# Altium schematic symbol library custom_components_ltk_mw.SchLib: 21 symbols
Pins are listed as number, name and electrical type; pins without a type are passive.

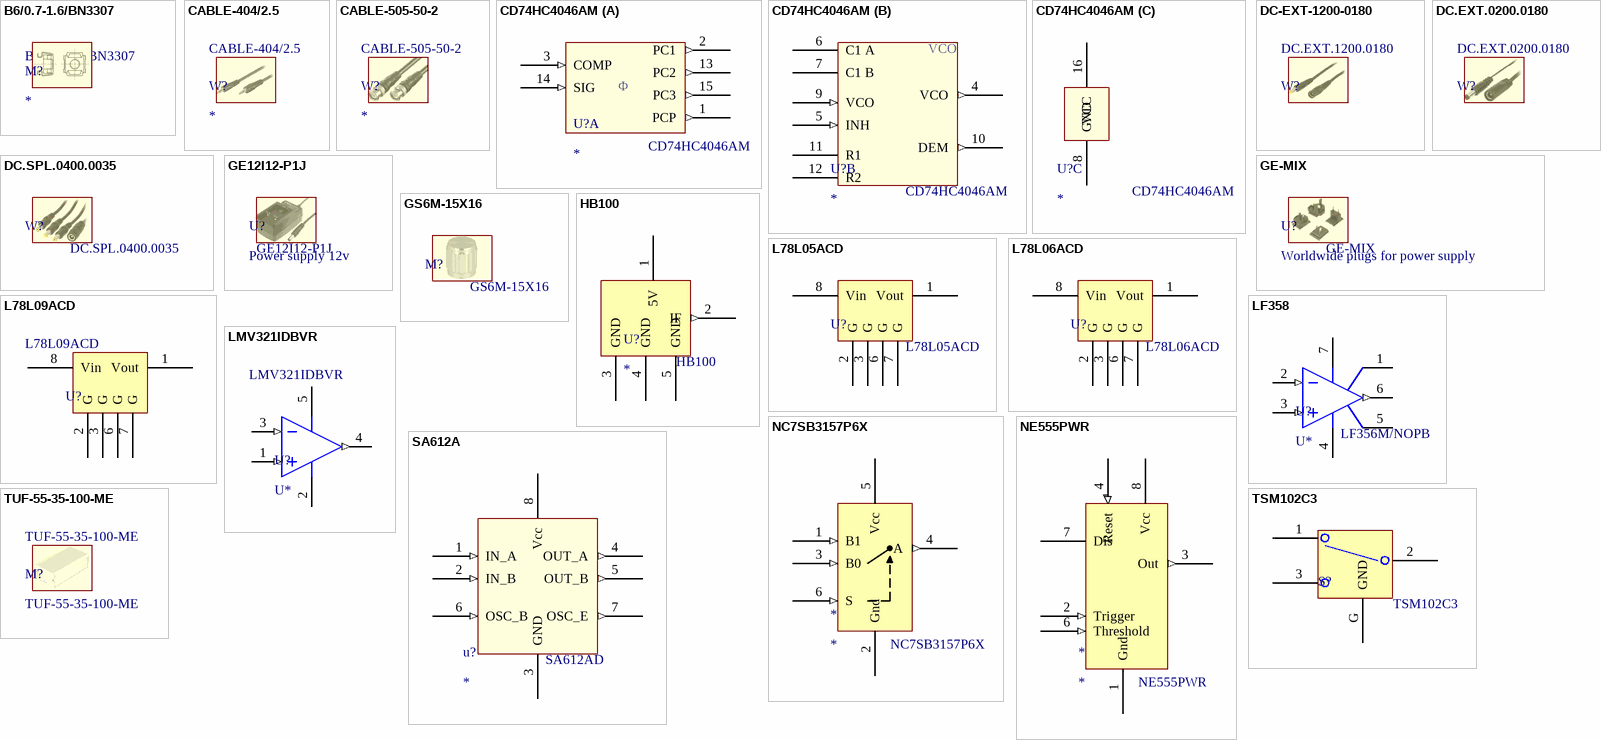
[diagram p0: symbols B6/0.7-1.6/BN3307 to TUF-55-35-100-ME]

## B6/0.7-1.6/BN3307
designator M?  Supplier Part Number 1: B6/0.7-1.6/BN3307
Supplier 1: TME

## CABLE-404/2.5
designator W?  Supplier Part Number 1: CABLE-404/2.5  (mechanical)
Supplier 1: TME

## CABLE-505-50-2
designator W?  Supplier Part Number 1: CABLE-505-50-2  (mechanical)
Supplier 1: TME

## CD74HC4046AM
designator U?  Supplier Part Number 1: CD74HC4046AM
Supplier 1: TME
footprint SO16
part A pins: 1 PCP (out), 2 PC1 (out), 3 COMP (in), 13 PC2 (out), 14 SIG (in), 15 PC3 (out)
part B pins: 4 VCO (out), 5 INH (in), 6 C1 A, 7 C1 B, 9 VCO (in), 10 DEM (out), 11 R1, 12 R2
part C pins: 8 GND (power), 16 VCC (power)
part A text: Φ

## DC-EXT-1200-0180
designator W?  Supplier Part Number 1: DC.EXT.1200.0180  (mechanical)
Supplier 1: TME

## DC.EXT.0200.0180
designator W?  Supplier Part Number 1: DC.EXT.0200.0180  (mechanical)
Supplier 1: TME

## DC.SPL.0400.0035
designator W?  Supplier Part Number 1: DC.SPL.0400.0035  (mechanical)
Supplier 1: TME

## GE12I12-P1J
designator U?, comment Power supply 12v  Supplier Part Number 1: GE12I12-P1J  (mechanical)
Supplier 1: TME

## GE-MIX
designator U?, comment Worldwide plugs for power supply  Supplier Part Number 1: GE-MIX  (mechanical)
Supplier 1: TME

## GS6M-15X16
designator M?, comment Supplier Part Number 1: GS6M-15X16  (hidden comment: knob)  (mechanical)
Supplier 1: TME

## HB100
designator U?
HB100; Manufacturer: China unspecified; Manufacturer Part Number: HB100; Supplier 1: Alibaba; Supplier Part Number 1: HB100
footprint HB100-buried
pins: 1 5V (power), 2 IF (out), 3 GND (power), 4 GND (power), 5 GND (power)

## L78L05ACD
designator U?  Supplier Part Number 1: L78L05ACD
Supplier 1: TME
footprint ST SOIC-8N (SOIC, 8-Leads, Body 4.90x3.90mm, Pitch 1.27mm, IPC Medium Density)
pins: 1 Vout (power), 2 G (power), 3 G (power), 6 G (power), 7 G (power), 8 Vin (power)

## L78L06ACD
designator U?
Supplier 1: TME; Supplier Part Number 1: L78L06ACD
footprint ST SOIC-8N (SOIC, 8-Leads, Body 4.90x3.90mm, Pitch 1.27mm, IPC Medium Density)
pins: 1 Vout (power), 2 G (power), 3 G (power), 6 G (power), 7 G (power), 8 Vin (power)

## L78L09ACD
designator U?
Supplier 1: TME; Supplier Part Number 1: L78L09ACD
footprint ST SOIC-8N (SOIC, 8-Leads, Body 4.90x3.90mm, Pitch 1.27mm, IPC Medium Density)
pins: 1 Vout (power), 2 G (power), 3 G (power), 6 G (power), 7 G (power), 8 Vin (power)

## LF358
designator U?, comment U*  Supplier Part Number 1: LF356M/NOPB
Supplier 1: TME
footprint TI SOIC-8 D (SOP, 8-Leads, Body 4.90x3.90mm, Pitch 1.27mm, IPC Medium Density)
pins: 1 CXA, 2 IN- (in), 3 IN+ (in), 4 VDD- (power), 5, 6 OUT (out), 7 VDD+ (power)

## LMV321IDBVR
designator U?, comment U*  Supplier Part Number 1: LMV321IDBVR
Supplier 1: TME
footprint TI SOT-23-5 DBV (SOT23, 5-Leads, Body 2.90x2.80mm, Pitch 0.95mm, IPC Medium Density)
pins: 1 IN+ (in), 2 VDD- (power), 3 IN- (in), 4 OUT (out), 5 VDD+ (power)

## NC7SB3157P6X
designator *  Supplier Part Number 1: NC7SB3157P6X
Supplier 1: TME
footprint SC70-6
pins: 1 B1 (in), 2 Gnd (power), 3 B0 (in), 4 A (out), 5 Vcc (power), 6 S (in)

## NE555PWR
designator *  Supplier Part Number 1: NE555PWR
Supplier 1: TME
footprint TSSOP8
pins: 1 Gnd (power), 2 Trigger (in), 3 Out (out), 4 Reset (in), 6 Threshold (in), 7 Dis, 8 Vcc (power)

## SA612A
designator u?  Supplier Part Number 1: SA612AD
Supplier 1: TME; Supplier 2: Mouser; Supplier Part Number 2: 771-SA612AD01112
footprint TI SOIC-8 D (SOP, 8-Leads, Body 4.90x3.90mm, Pitch 1.27mm, IPC Medium Density)
pins: 1 IN_A (in), 2 IN_B (in), 3 GND (power), 4 OUT_A (out), 5 OUT_B (out), 6 OSC_B (in), 7 OSC_E (out), 8 Vcc (power)

## TSM102C3
designator S?  Supplier Part Number 1: TSM102C3
Supplier 1: TME
footprint TSM102C3
pins: 1, 2, 3, G GND

## TUF-55-35-100-ME
designator M?
Supplier 1: TME; Supplier Part Number 1: TUF-55-35-100-ME